# EAGLE library part RM_SW_LED_IF (library PartsForProto)
10Pin インターフェースピン 鉄道模型パワーコントローラー基板用 タクトスイッチ、LEDを外出しにするためのインタフェース
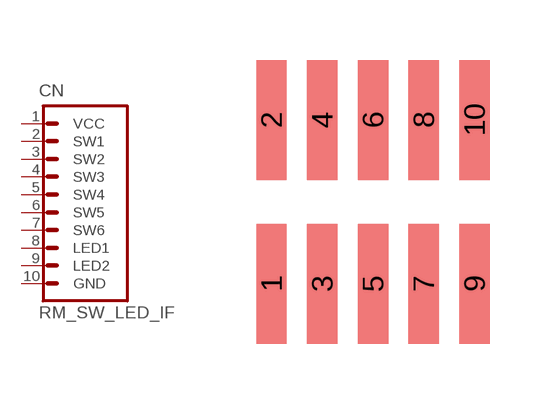
[diagram p16: symbol with the pads of DIL10_RIBBON_CABLE_IF; footprint DIL10_RIBBON_CABLE_IF]

Designator prefix CN

## RM_SW_LED_IF  [DIL10_RIBBON_CABLE_IF]
1  VCC  pas
2  SW1
3  SW2
4  SW3
5  SW4
6  SW5
7  SW6
8  LED1
9  LED2
10  GND  pas

## Footprint DIL10_RIBBON_CABLE_IF (pad centres in mm)
PH127-2x5MG-1.5 ２×５（１０Ｐ）表面実装用ピンヘッダ １．２７ｍｍピッチ 取付用パターン
smd 0.76 x 3: 1 0.38,1.5; 2 0.38,5.6; 3 1.65,1.5; 4 1.65,5.6; 5 2.92,1.5; 6 2.92,5.6; 7 4.19,1.5; 8 4.19,5.6; 9 5.46,1.5; 10 5.46,5.6